# Altium integrated library Analog Devices Data Converters Digital-to-Analog Converters.IntLib: 2231 symbols (part 52 of 181)
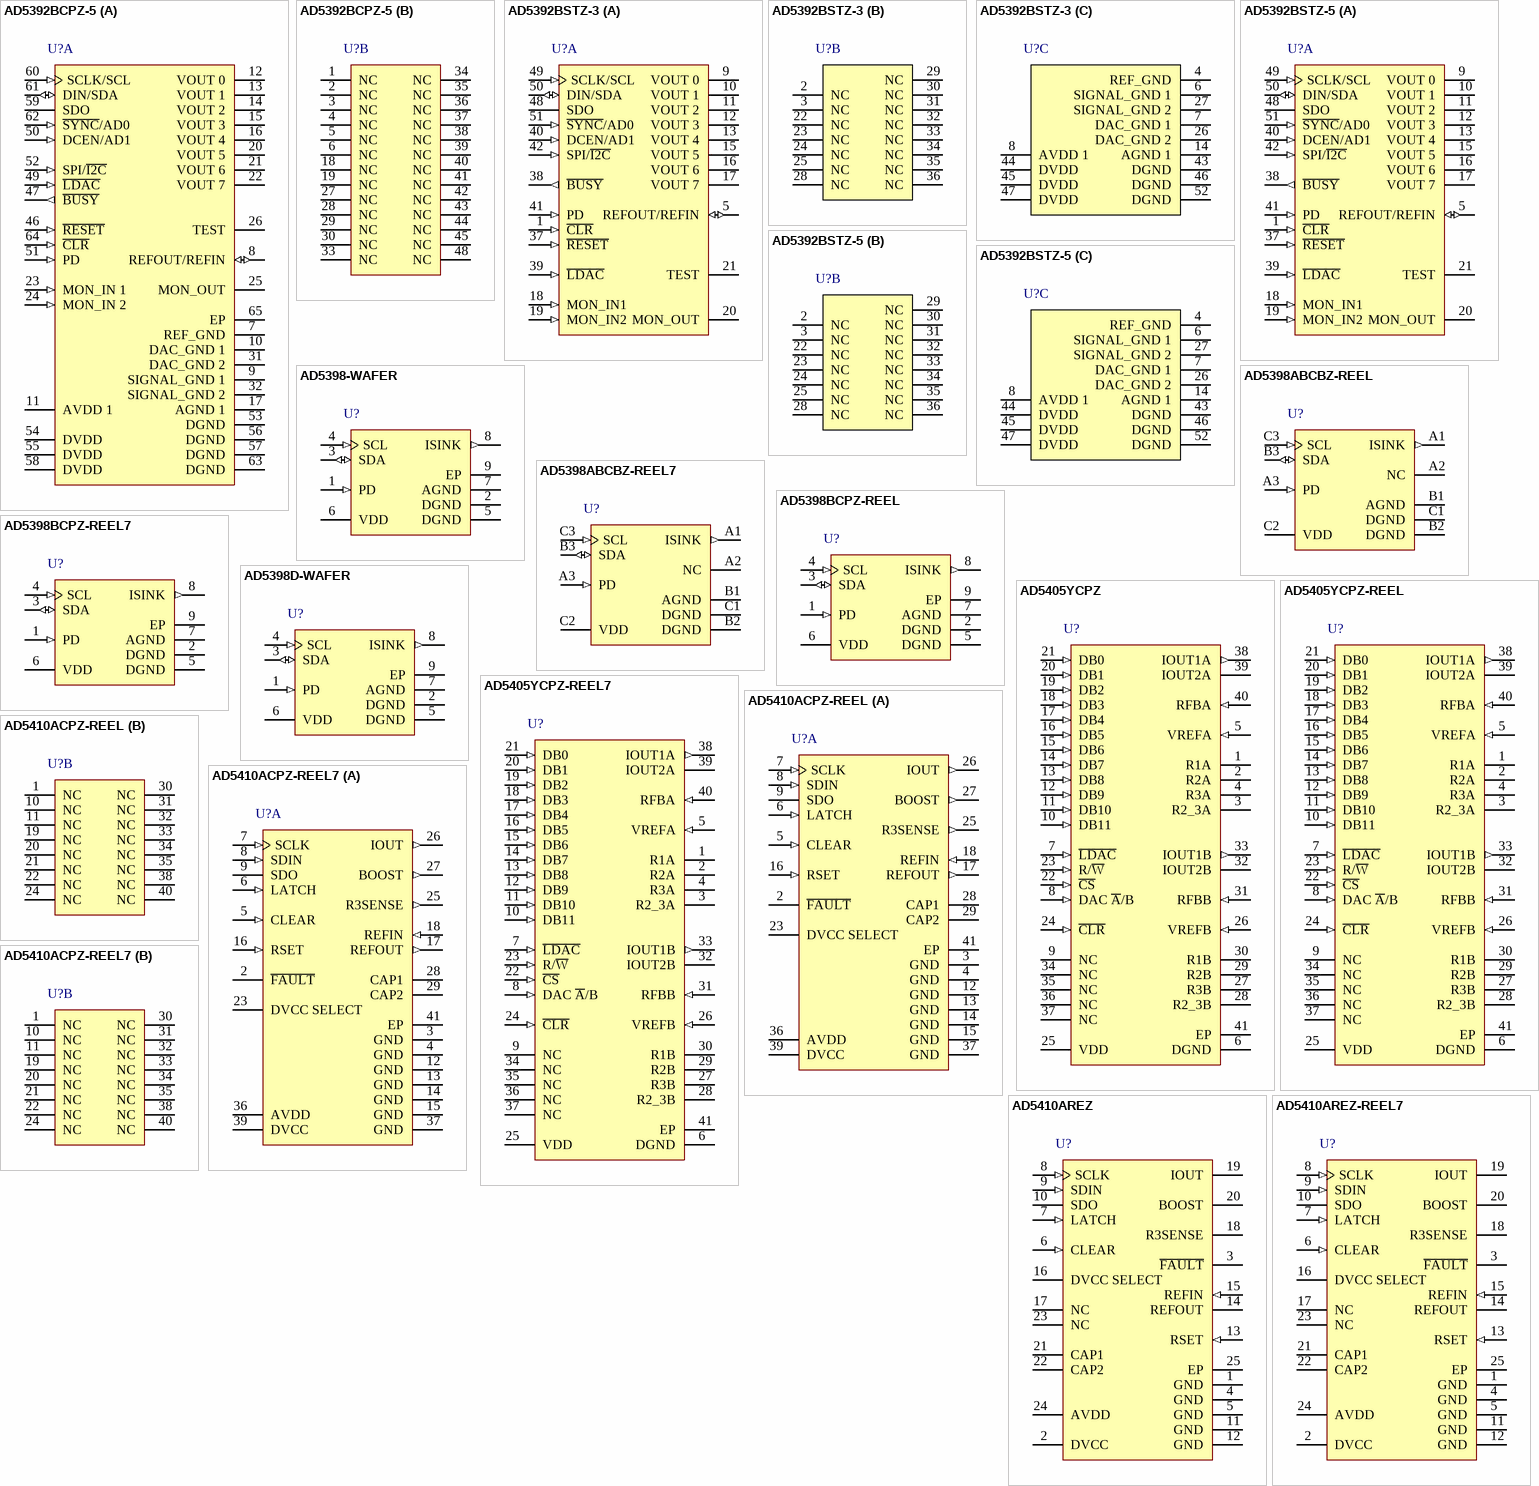
[diagram p165: symbols AD5392BCPZ-5 to AD5410AREZ-REEL7]

## AD5392BSTZ-3
designator U?
Octal 14-Bit Single-Supply Voltage Output Digital-to-Analog Converter with Serial Interface, 3 V, -40 to +85 degC, ST-52, Pb-Free, Tray; Generic Part Number: AD5392; Manufacturer: Analog Devices; PartNumber: AD5392BSTZ-3; # DAC Outputs: 8; Max V+: 5.5V; Resolution (Bits): 14; Settling Time: 8µs; Single Supply: Yes; DatasheetVersion: Rev. D; PackageVersion: 2003; PackageReference: ST-52; PackageDescription: 52-Lead Low Profile Quad Flat Package [LQFP]; Supplier 1: Digi-Key; Supplier Part Number 1: AD5392BSTZ-3-ND; Supplier 2: Mouser; Supplier Part Number 2: 584-AD5392BSTZ-3; Packing: Tray; RoHS: Y; Mounting Technology: Surface Mount; Code_JEDEC: MS-026-BCC; ComponentLink1Description: Manufacturer URL; ComponentLink1URL: http://www.analog.com/en/index.html; ComponentLink2Description: Datasheet; ComponentLink2URL: http://www.analog.com/static/imported-files/data_sheets/AD5390_5391_5392.pdf; ComponentLink3Description: Package Specification; ComponentLink3URL: http://www.analog.com/static/imported-files/packages/61012411624300842189414155189544791816408612ST_52_10x10.pdf; ComponentLink4Description: Product URL; ComponentLink4URL: http://www.analog.com/en/digital-to-analog-converters/da-converters/ad5392/products/product.html; ComponentLink5Description: Reference Design URL; ComponentLink5URL: http://www.analog.com/en/digital-to-analog-converters/da-converters/ad5392/products/product.html#prod_cross_sell
footprint ST-52_N (Thin QFP, 52-Leads, Body 10 x 10mm, Pitch 0.65mm, IPC Medium Density)
footprint ST-52_L (Thin QFP, 52-Leads, Body 10 x 10mm, Pitch 0.65mm, IPC High Density)
footprint ST-52_M (Thin QFP, 52-Leads, Body 10 x 10mm, Pitch 0.65mm, IPC Low Density)
part A pins: 1 ~{CLR} (in) "Asynchronous Clear Input. The C\L\R\ input is falling edge sensitive. While C\L\R\ is low, all L\D\A\C\ pulses are ignored. When C\L\R\ is activated, all channels are updated with the data contained in the C\L\R\ code (See Datasheet)", 5 REFOUT/REFIN (io) "The AD5392 contains a common REFOUT/REFIN pin. When the internal reference is selected, this pin is the reference  output. If the application necessitates the use of an external reference, it can be applied to this pin and (See Datasheet)", 9 VOUT 0 (hiz) "Buffered Analog Outputs for Channel 0. Each analog output is driven by a rail-to-rail output amplifier operating at a gain  of 2. Each output is capable of driving an output load of 5 kohm to ground. Typical output impedance (See Datasheet)", 10 VOUT 1 (hiz) "Buffered Analog Outputs for Channel 1. Each analog output is driven by a rail-to-rail output amplifier operating at a gain  of 2. Each output is capable of driving an output load of 5 kohm to ground. Typical output impedance (See Datasheet)", 11 VOUT 2 (hiz) "Buffered Analog Outputs for Channel 2. Each analog output is driven by a rail-to-rail output amplifier operating at a gain  of 2. Each output is capable of driving an output load of 5 kohm to ground. Typical output impedance (See Datasheet)", 12 VOUT 3 (hiz) "Buffered Analog Outputs for Channel 3. Each analog output is driven by a rail-to-rail output amplifier operating at a gain  of 2. Each output is capable of driving an output load of 5 kohm to ground. Typical output impedance (See Datasheet)", 13 VOUT 4 (hiz) "Buffered Analog Outputs for Channel 4. Each analog output is driven by a rail-to-rail output amplifier operating at a gain  of 2. Each output is capable of driving an output load of 5 kohm to ground. Typical output impedance (See Datasheet)", 15 VOUT 5 (hiz) "Buffered Analog Outputs for Channel 5. Each analog output is driven by a rail-to-rail output amplifier operating at a gain  of 2. Each output is capable of driving an output load of 5 kohm to ground. Typical output impedance (See Datasheet)", 16 VOUT 6 (hiz) "Buffered Analog Outputs for Channel 6. Each analog output is driven by a rail-to-rail output amplifier operating at a gain  of 2. Each output is capable of driving an output load of 5 kohm to ground. Typical output impedance (See Datasheet)", 17 VOUT 7 (hiz) "Buffered Analog Outputs for Channel 7. Each analog output is driven by a rail-to-rail output amplifier operating at a gain  of 2. Each output is capable of driving an output load of 5 kohm to ground. Typical output impedance (See Datasheet)", 18 MON_IN1 (in) "Monitor Input Pins. The AD5392 contains two monitor input pins to which the user can connect input signals (within the  maximum ratings of the device) for monitoring purposes. Any of the signals applied to the MON_IN pins (See Datasheet)", 19 MON_IN2 (in) "Monitor Input Pins. The AD5392 contains two monitor input pins to which the user can connect input signals (within the  maximum ratings of the device) for monitoring purposes. Any of the signals applied to the MON_IN pins (See Datasheet)", 20 MON_OUT (hiz) "Analog Output Pin. When the  monitor function is enabled on the AD5392, the MON_OUT acts as the output of an 8-to-1 channel multiplexer that can  be programmed to multiplex any channel output to the MON_OUT pin. The MON_OUT (See Datasheet)", 21 TEST "Test pin (AD5392 only). This pin is used for production testing. For normal operation, this pin should not be connected.", 37 ~{RESET} (in) "Asynchronous Digital Reset Input (falling edge sensitive). The function of this pin is equivalent to that of the power-on reset generator. When this pin is taken low, the state machine initiates a reset sequence to digitally (See Datasheet)", 38 ~{BUSY} (out) "Digital CMOS Output. B\U\S\Y\ goes low during internal calculations of the data (x2) loaded to the DAC data register. During this time, the user can continue writing new data to further the x1, c, and m registers (these are (See Datasheet)", 39 ~{LDAC} (in) "Load DAC Logic Input (active low). If L\D\A\C\ is taken low while B\U\S\Y\ is inactive (high), the contents of the input registers are transferred to the DAC registers and the DAC outputs are updated. If L\D\A\C\ is taken (See Datasheet)", 40 DCEN/AD1 (in) "Interface Control Pin. Operation is determined by the interface select bit SPI/I\2\C\.  Serial Interface Mode: Daisy-Chain Select Input (level-sensitive, active high). When high, this pin enables daisy-chain  operation to (See Datasheet)", 41 PD (in) "Power-Down (level-sensitive, active high). Used to place the device in low power mode, in which the device consumes  1 uA analog current and 20 uA digital current. In power-down mode, all internal analog circuitry is placed (See Datasheet)", 42 SPI/~{I2C} (in) "Interface Select Input Pin. When this input is low, I2C mode is selected. When this input is high, SPI mode is selected.", 48 SDO (hiz) "Serial Data Output. Three-state CMOS output. SDO can be used for daisy-chaining a number of devices together. Data is  clocked out on SDO on the rising edge of SCLK and is valid on the falling edge of SCLK.", 49 SCLK/SCL (in) "Interface Clock Input Pin. In SPI-compatible serial interface mode, this pin acts as a serial clock input. It operates at clock  speeds up to 50 MHz.  I2C mode: In I2C mode, this pin performs the SCL function, clocking data (See Datasheet)", 50 DIN/SDA (io) "Interface Data Input Pin. SPI/I\2\C\ = 1: This pin acts as the serial data input. Data must be valid on the falling edge of SCLK. SPI/I\2\C\ = 0, I2C mode: In I2C mode, this pin is the serial data pin (SDA) operating as an (See Datasheet)", 51 ~{SYNC}/AD0 (in) "Serial Interface Pin. This is the frame synchronization input signal for the serial interface. When taken low, the internal  counter is enabled to count the required number of clocks before the addressed register is updated. (See Datasheet)"
part B pins: 2 NC "No Connect. These pins have no internal connection.", 3 NC "No Connect. These pins have no internal connection.", 22 NC "No Connect. These pins have no internal connection.", 23 NC "No Connect. These pins have no internal connection.", 24 NC "No Connect. These pins have no internal connection.", 25 NC "No Connect. These pins have no internal connection.", 28 NC "No Connect. These pins have no internal connection.", 29 NC "No Connect. These pins have no internal connection.", 30 NC "No Connect. These pins have no internal connection.", 31 NC "No Connect. These pins have no internal connection.", 32 NC "No Connect. These pins have no internal connection.", 33 NC "No Connect. These pins have no internal connection.", 34 NC "No Connect. These pins have no internal connection.", 35 NC "No Connect. These pins have no internal connection.", 36 NC "No Connect. These pins have no internal connection."
part C pins: 4 REF_GND (power) "Ground Reference Point for the Internal Reference. Connect to AGND.", 6 SIGNAL_GND 1 (power) "Analog Ground Reference Points for each group of eight output channels. All SIGNAL_GND pins are tied together  internally and should be connected to the AGND plane as close as possible to the AD5392.", 7 DAC_GND 1 (power) "Each group of eight channels contains a DAC_GND pin. This is the ground reference point for the internal 14-bit DACs.  These pins should be connected to the AGND plane.", 8 AVDD 1 (power) "Analog Supply Pins. Each group of eight channels has a separate AVDD pin. These pins should be decoupled with 0.1 uF  ceramic capacitors and 10 µF tantalum capacitors. Operating range is 5 V +/- 10%.", 14 AGND 1 (power) "Analog Ground Reference Point. Each group of eight channels contains an AGND pin. All AGND pins should be  connected externally to the AGND plane.", 26 DAC_GND 2 (power) "Each group of eight channels contains a DAC_GND pin. This is the ground reference point for the internal 14-bit DACs.  These pins should be connected to the AGND plane.", 27 SIGNAL_GND 2 (power) "Analog Ground Reference Points for each group of eight output channels. All SIGNAL_GND pins are tied together  internally and should be connected to the AGND plane as close as possible to the AD5392.", 43 DGND (power) "Ground for All Digital Circuitry.", 44 DVDD (power) "Logic Power Supply. Guaranteed operating range is 2.7 V to 5.5 V. Recommended that these pins be decoupled with  0.1 uF ceramic capacitors and 10 uF tantalum capacitors to DGND.", 45 DVDD (power) "Logic Power Supply. Guaranteed operating range is 2.7 V to 5.5 V. Recommended that these pins be decoupled with  0.1 uF ceramic capacitors and 10 uF tantalum capacitors to DGND.", 46 DGND (power) "Ground for All Digital Circuitry.", 47 DVDD (power) "Logic Power Supply. Guaranteed operating range is 2.7 V to 5.5 V. Recommended that these pins be decoupled with  0.1 uF ceramic capacitors and 10 μF tantalum capacitors to DGND.", 52 DGND (power) "Ground for All Digital Circuitry."

## AD5392BSTZ-5
designator U?
Octal 14-Bit Single-Supply Voltage Output Digital-to-Analog Converter with Serial Interface, 5 V, -40 to +85 degC, ST-52, Pb-Free, Tray; Generic Part Number: AD5392; Manufacturer: Analog Devices; PartNumber: AD5392BSTZ-5; # DAC Outputs: 8; Max V+: 5.5V; Resolution (Bits): 14; Settling Time: 8µs; Single Supply: Yes; DatasheetVersion: Rev. D; PackageVersion: 2003; PackageReference: ST-52; PackageDescription: 52-Lead Low Profile Quad Flat Package [LQFP]; Supplier 1: Digi-Key; Supplier Part Number 1: AD5392BSTZ-5-ND; Supplier 2: Newark; Supplier Part Number 2: 59K4091; Supplier 3: Mouser; Supplier Part Number 3: 584-AD5392BSTZ-5; Packing: Tray; RoHS: Y; Mounting Technology: Surface Mount; Code_JEDEC: MS-026-BCC; ComponentLink1Description: Manufacturer URL; ComponentLink1URL: http://www.analog.com/en/index.html; ComponentLink2Description: Datasheet; ComponentLink2URL: http://www.analog.com/static/imported-files/data_sheets/AD5390_5391_5392.pdf; ComponentLink3Description: Package Specification; ComponentLink3URL: http://www.analog.com/static/imported-files/packages/61012411624300842189414155189544791816408612ST_52_10x10.pdf; ComponentLink4Description: Product URL; ComponentLink4URL: http://www.analog.com/en/digital-to-analog-converters/da-converters/ad5392/products/product.html; ComponentLink5Description: Reference Design URL; ComponentLink5URL: http://www.analog.com/en/digital-to-analog-converters/da-converters/ad5392/products/product.html#prod_cross_sell
footprint ST-52_N (Thin QFP, 52-Leads, Body 10 x 10mm, Pitch 0.65mm, IPC Medium Density)
footprint ST-52_L (Thin QFP, 52-Leads, Body 10 x 10mm, Pitch 0.65mm, IPC High Density)
footprint ST-52_M (Thin QFP, 52-Leads, Body 10 x 10mm, Pitch 0.65mm, IPC Low Density)
part A pins: 1 ~{CLR} (in) "Asynchronous Clear Input. The C\L\R\ input is falling edge sensitive. While C\L\R\ is low, all L\D\A\C\ pulses are ignored. When C\L\R\ is activated, all channels are updated with the data contained in the C\L\R\ code (See Datasheet)", 5 REFOUT/REFIN (io) "The AD5392 contains a common REFOUT/REFIN pin. When the internal reference is selected, this pin is the reference  output. If the application necessitates the use of an external reference, it can be applied to this pin and (See Datasheet)", 9 VOUT 0 (hiz) "Buffered Analog Outputs for Channel 0. Each analog output is driven by a rail-to-rail output amplifier operating at a gain  of 2. Each output is capable of driving an output load of 5 kohm to ground. Typical output impedance (See Datasheet)", 10 VOUT 1 (hiz) "Buffered Analog Outputs for Channel 1. Each analog output is driven by a rail-to-rail output amplifier operating at a gain  of 2. Each output is capable of driving an output load of 5 kohm to ground. Typical output impedance (See Datasheet)", 11 VOUT 2 (hiz) "Buffered Analog Outputs for Channel 2. Each analog output is driven by a rail-to-rail output amplifier operating at a gain  of 2. Each output is capable of driving an output load of 5 kohm to ground. Typical output impedance (See Datasheet)", 12 VOUT 3 (hiz) "Buffered Analog Outputs for Channel 3. Each analog output is driven by a rail-to-rail output amplifier operating at a gain  of 2. Each output is capable of driving an output load of 5 kohm to ground. Typical output impedance (See Datasheet)", 13 VOUT 4 (hiz) "Buffered Analog Outputs for Channel 4. Each analog output is driven by a rail-to-rail output amplifier operating at a gain  of 2. Each output is capable of driving an output load of 5 kohm to ground. Typical output impedance (See Datasheet)", 15 VOUT 5 (hiz) "Buffered Analog Outputs for Channel 5. Each analog output is driven by a rail-to-rail output amplifier operating at a gain  of 2. Each output is capable of driving an output load of 5 kohm to ground. Typical output impedance (See Datasheet)", 16 VOUT 6 (hiz) "Buffered Analog Outputs for Channel 6. Each analog output is driven by a rail-to-rail output amplifier operating at a gain  of 2. Each output is capable of driving an output load of 5 kohm to ground. Typical output impedance (See Datasheet)", 17 VOUT 7 (hiz) "Buffered Analog Outputs for Channel 7. Each analog output is driven by a rail-to-rail output amplifier operating at a gain  of 2. Each output is capable of driving an output load of 5 kohm to ground. Typical output impedance (See Datasheet)", 18 MON_IN1 (in) "Monitor Input Pins. The AD5392 contains two monitor input pins to which the user can connect input signals (within the  maximum ratings of the device) for monitoring purposes. Any of the signals applied to the MON_IN pins (See Datasheet)", 19 MON_IN2 (in) "Monitor Input Pins. The AD5392 contains two monitor input pins to which the user can connect input signals (within the  maximum ratings of the device) for monitoring purposes. Any of the signals applied to the MON_IN pins (See Datasheet)", 20 MON_OUT (hiz) "Analog Output Pin. When the  monitor function is enabled on the AD5392, the MON_OUT acts as the output of an 8-to-1 channel multiplexer that can  be programmed to multiplex any channel output to the MON_OUT pin. The MON_OUT (See Datasheet)", 21 TEST "Test pin (AD5392 only). This pin is used for production testing. For normal operation, this pin should not be connected.", 37 ~{RESET} (in) "Asynchronous Digital Reset Input (falling edge sensitive). The function of this pin is equivalent to that of the power-on reset generator. When this pin is taken low, the state machine initiates a reset sequence to digitally (See Datasheet)", 38 ~{BUSY} (out) "Digital CMOS Output. B\U\S\Y\ goes low during internal calculations of the data (x2) loaded to the DAC data register. During this time, the user can continue writing new data to further the x1, c, and m registers (these are (See Datasheet)", 39 ~{LDAC} (in) "Load DAC Logic Input (active low). If L\D\A\C\ is taken low while B\U\S\Y\ is inactive (high), the contents of the input registers are transferred to the DAC registers and the DAC outputs are updated. If L\D\A\C\ is taken (See Datasheet)", 40 DCEN/AD1 (in) "Interface Control Pin. Operation is determined by the interface select bit SPI/I\2\C\.  Serial Interface Mode: Daisy-Chain Select Input (level-sensitive, active high). When high, this pin enables daisy-chain  operation to (See Datasheet)", 41 PD (in) "Power-Down (level-sensitive, active high). Used to place the device in low power mode, in which the device consumes  1 uA analog current and 20 uA digital current. In power-down mode, all internal analog circuitry is placed (See Datasheet)", 42 SPI/~{I2C} (in) "Interface Select Input Pin. When this input is low, I2C mode is selected. When this input is high, SPI mode is selected.", 48 SDO (hiz) "Serial Data Output. Three-state CMOS output. SDO can be used for daisy-chaining a number of devices together. Data is  clocked out on SDO on the rising edge of SCLK and is valid on the falling edge of SCLK.", 49 SCLK/SCL (in) "Interface Clock Input Pin. In SPI-compatible serial interface mode, this pin acts as a serial clock input. It operates at clock  speeds up to 50 MHz.  I2C mode: In I2C mode, this pin performs the SCL function, clocking data (See Datasheet)", 50 DIN/SDA (io) "Interface Data Input Pin. SPI/I\2\C\ = 1: This pin acts as the serial data input. Data must be valid on the falling edge of SCLK. SPI/I\2\C\ = 0, I2C mode: In I2C mode, this pin is the serial data pin (SDA) operating as an (See Datasheet)", 51 ~{SYNC}/AD0 (in) "Serial Interface Pin. This is the frame synchronization input signal for the serial interface. When taken low, the internal  counter is enabled to count the required number of clocks before the addressed register is updated. (See Datasheet)"
part B pins: 2 NC "No Connect. These pins have no internal connection.", 3 NC "No Connect. These pins have no internal connection.", 22 NC "No Connect. These pins have no internal connection.", 23 NC "No Connect. These pins have no internal connection.", 24 NC "No Connect. These pins have no internal connection.", 25 NC "No Connect. These pins have no internal connection.", 28 NC "No Connect. These pins have no internal connection.", 29 NC "No Connect. These pins have no internal connection.", 30 NC "No Connect. These pins have no internal connection.", 31 NC "No Connect. These pins have no internal connection.", 32 NC "No Connect. These pins have no internal connection.", 33 NC "No Connect. These pins have no internal connection.", 34 NC "No Connect. These pins have no internal connection.", 35 NC "No Connect. These pins have no internal connection.", 36 NC "No Connect. These pins have no internal connection."
part C pins: 4 REF_GND (power) "Ground Reference Point for the Internal Reference. Connect to AGND.", 6 SIGNAL_GND 1 (power) "Analog Ground Reference Points for each group of eight output channels. All SIGNAL_GND pins are tied together  internally and should be connected to the AGND plane as close as possible to the AD5392.", 7 DAC_GND 1 (power) "Each group of eight channels contains a DAC_GND pin. This is the ground reference point for the internal 14-bit DACs.  These pins should be connected to the AGND plane.", 8 AVDD 1 (power) "Analog Supply Pins. Each group of eight channels has a separate AVDD pin. These pins should be decoupled with 0.1 uF  ceramic capacitors and 10 µF tantalum capacitors. Operating range is 5 V +/- 10%.", 14 AGND 1 (power) "Analog Ground Reference Point. Each group of eight channels contains an AGND pin. All AGND pins should be  connected externally to the AGND plane.", 26 DAC_GND 2 (power) "Each group of eight channels contains a DAC_GND pin. This is the ground reference point for the internal 14-bit DACs.  These pins should be connected to the AGND plane.", 27 SIGNAL_GND 2 (power) "Analog Ground Reference Points for each group of eight output channels. All SIGNAL_GND pins are tied together  internally and should be connected to the AGND plane as close as possible to the AD5392.", 43 DGND (power) "Ground for All Digital Circuitry.", 44 DVDD (power) "Logic Power Supply. Guaranteed operating range is 2.7 V to 5.5 V. Recommended that these pins be decoupled with  0.1 uF ceramic capacitors and 10 uF tantalum capacitors to DGND.", 45 DVDD (power) "Logic Power Supply. Guaranteed operating range is 2.7 V to 5.5 V. Recommended that these pins be decoupled with  0.1 uF ceramic capacitors and 10 uF tantalum capacitors to DGND.", 46 DGND (power) "Ground for All Digital Circuitry.", 47 DVDD (power) "Logic Power Supply. Guaranteed operating range is 2.7 V to 5.5 V. Recommended that these pins be decoupled with  0.1 uF ceramic capacitors and 10 μF tantalum capacitors to DGND.", 52 DGND (power) "Ground for All Digital Circuitry."

## AD5398-WAFER
designator U?
Single 10-Bit Current Sinking Digital-to-Analog Converter with I2C Interface, 120 mA, CP-8-2, Pb-Free, Reel; Generic Part Number: AD5398; Manufacturer: Analog Devices; PartNumber: AD5398-WAFER; # DAC Outputs: 1; Max V+: 5.5V; Op Pwr Diss: 20mW; Resolution (Bits): 10; Settling Time: 250µs; Single Supply: Yes; DatasheetVersion: Rev.B; PackageVersion: 061507-B; PackageReference: CP-8-2; PackageDescription: 8-Lead Lead Frame Chip Scale Package [LFCSP_VD] 3 x 3 mm Body, Very Thin, Dual Lead; Supplier 1: Mouser; Supplier Part Number 1: N/A; RoHS: Y; Mounting Technology: Surface Mount; ComponentLink1Description: Manufacturer URL; ComponentLink1URL: http://www.analog.com/en/index.html; ComponentLink2Description: Datasheet; ComponentLink2URL: http://www.analog.com/static/imported-files/data_sheets/AD5398.pdf; ComponentLink3Description: Package Specification; ComponentLink3URL: http://www.analog.com/static/imported-files/packages/56953322593982CP_8_2.pdf; ComponentLink4Description: Product URL; ComponentLink4URL: http://www.analog.com/en/digital-to-analog-converters/da-converters/ad5398/products/product.html
footprint CP-8-2_N (SON, 8-Leads, Body 3x3mm, Pitch 0.5mm, Thermal Pad 1.75x1.45mm, IPC Medium Density)
footprint CP-8-2_L (SON, 8-Leads, Body 3x3mm, Pitch 0.5mm, Thermal Pad 1.75x1.45mm, IPC High Density)
footprint CP-8-2_M (SON, 8-Leads, Body 3x3mm, Pitch 0.5mm, Thermal Pad 1.75x1.45mm, IPC Low Density)
pins: 1 PD (in) "Power Down. Asynchronous power-down signal.", 2 DGND (power) "Digital Ground Pin.", 3 SDA (io) "I2C Interface Signal.", 4 SCL (in) "I2C Interface Signal.", 5 DGND (power) "Digital Ground Pin.", 6 VDD (power) "Digital Supply Voltage.", 7 AGND (power) "Analog Ground Pin.", 8 ISINK (out) "Output Current Sink.", 9 EP (power) "The exposed paddle on the AD5398 should be soldered to ground to ensure the best possible thermal performance"

## AD5398ABCBZ-REEL
designator U?
Single 10-Bit Current Sinking Digital-to-Analog Converter with I2C Interface, 120 mA, -30 to +85 degC, CB-9-1, Pb-Free, Reel; Generic Part Number: AD5398A; Manufacturer: Analog Devices; PartNumber: AD5398ABCBZ-REEL; # DAC Outputs: 1; Max V+: 5.5V; Op Pwr Diss: 5mW; Resolution (Bits): 10; Settling Time: 250µs; Single Supply: Yes; DatasheetVersion: Rev.0; PackageVersion: 091306-B; PackageReference: CB-9-1; PackageDescription: 9-Ball Wafer Level Chip Scale Package [WLCSP]; Supplier 1: Digi-Key; Supplier Part Number 1: AD5398ABCBZ-REEL-ND; Supplier 2: Mouser; Supplier Part Number 2: 584-AD5398ABCBZ-R; Packing: Reel; RoHS: Y; Mounting Technology: Surface Mount; ComponentLink1Description: Manufacturer URL; ComponentLink1URL: http://www.analog.com/en/index.html; ComponentLink2Description: Datasheet; ComponentLink2URL: http://www.analog.com/static/imported-files/data_sheets/AD5398A.pdf; ComponentLink3Description: Package Specification; ComponentLink3URL: http://www.analog.com/static/imported-files/packages/PKG_PDF/WLCSP(CB)/CB_9_1.pdf; ComponentLink4Description: Product URL; ComponentLink4URL: http://www.analog.com/en/digital-to-analog-converters/da-converters/ad5398a/products/product.html
footprint CB-9-1 (BGA, 9-Leads, Body 1.69x1.52mm, Pitch 0.5mm)
pins: A1 ISINK (out) "Output Current Sink.", A2 NC "No Connection.", A3 PD (in) "Power-Down. Asynchronous power-down signal.", B1 AGND (power) "Analog Ground Pin.", B2 DGND (power) "Digital Ground Pin.", B3 SDA (io) "I2C Interface Signal.", C1 DGND (power) "Digital Ground Pin.", C2 VDD (power) "Digital Supply Voltage.", C3 SCL (in) "I2C Interface Signal."

## AD5398ABCBZ-REEL7
designator U?
Single 10-Bit Current Sinking Digital-to-Analog Converter with I2C Interface, 120 mA, -30 to +85 degC, CB-9-1, Pb-Free, Reel; Generic Part Number: AD5398A; Manufacturer: Analog Devices; PartNumber: AD5398ABCBZ-REEL7; # DAC Outputs: 1; Max V+: 5.5V; Op Pwr Diss: 5mW; Resolution (Bits): 10; Settling Time: 250µs; Single Supply: Yes; DatasheetVersion: Rev.0; PackageVersion: 091306-B; PackageReference: CB-9-1; PackageDescription: 9-Ball Wafer Level Chip Scale Package [WLCSP]; Supplier 1: Digi-Key; Supplier Part Number 1: AD5398ABCBZ-REEL7TR-ND; Supplier 2: Digi-Key; Supplier Part Number 2: AD5398ABCBZ-REEL7CT-ND; Supplier 3: Digi-Key; Supplier Part Number 3: AD5398ABCBZ-REEL7DKR-ND; Supplier 4: Mouser; Supplier Part Number 4: 584-AD5398ABCBZ-R7; Packing: Reel; RoHS: Y; Mounting Technology: Surface Mount; ComponentLink1Description: Manufacturer URL; ComponentLink1URL: http://www.analog.com/en/index.html; ComponentLink2Description: Datasheet; ComponentLink2URL: http://www.analog.com/static/imported-files/data_sheets/AD5398A.pdf; ComponentLink3Description: Package Specification; ComponentLink3URL: http://www.analog.com/static/imported-files/packages/PKG_PDF/WLCSP(CB)/CB_9_1.pdf; ComponentLink4Description: Product URL; ComponentLink4URL: http://www.analog.com/en/digital-to-analog-converters/da-converters/ad5398a/products/product.html
footprint CB-9-1 (BGA, 9-Leads, Body 1.69x1.52mm, Pitch 0.5mm)
pins: A1 ISINK (out) "Output Current Sink.", A2 NC "No Connection.", A3 PD (in) "Power-Down. Asynchronous power-down signal.", B1 AGND (power) "Analog Ground Pin.", B2 DGND (power) "Digital Ground Pin.", B3 SDA (io) "I2C Interface Signal.", C1 DGND (power) "Digital Ground Pin.", C2 VDD (power) "Digital Supply Voltage.", C3 SCL (in) "I2C Interface Signal."

## AD5398BCPZ-REEL
designator U?
Single 10-Bit Current Sinking Digital-to-Analog Converter with I2C Interface, 120 mA, -40 to +85 degC, CP-8-2, Pb-Free, Reel; Generic Part Number: AD5398; Manufacturer: Analog Devices; PartNumber: AD5398BCPZ-REEL; # DAC Outputs: 1; Max V+: 5.5V; Op Pwr Diss: 20mW; Resolution (Bits): 10; Settling Time: 250µs; Single Supply: Yes; DatasheetVersion: Rev.B; PackageVersion: 061507-B; PackageReference: CP-8-2; PackageDescription: 8-Lead Lead Frame Chip Scale Package [LFCSP_VD] 3 x 3 mm Body, Very Thin, Dual Lead; Supplier 1: Digi-Key; Supplier Part Number 1: AD5398BCPZ-REEL-ND; Supplier 2: Mouser; Supplier Part Number 2: 584-AD5398BCPZ-R; Packing: Reel; RoHS: Y; Mounting Technology: Surface Mount; ComponentLink1Description: Manufacturer URL; ComponentLink1URL: http://www.analog.com/en/index.html; ComponentLink2Description: Datasheet; ComponentLink2URL: http://www.analog.com/static/imported-files/data_sheets/AD5398.pdf; ComponentLink3Description: Package Specification; ComponentLink3URL: http://www.analog.com/static/imported-files/packages/56953322593982CP_8_2.pdf; ComponentLink4Description: Product URL; ComponentLink4URL: http://www.analog.com/en/digital-to-analog-converters/da-converters/ad5398/products/product.html
footprint CP-8-2_N (SON, 8-Leads, Body 3x3mm, Pitch 0.5mm, Thermal Pad 1.75x1.45mm, IPC Medium Density)
footprint CP-8-2_L (SON, 8-Leads, Body 3x3mm, Pitch 0.5mm, Thermal Pad 1.75x1.45mm, IPC High Density)
footprint CP-8-2_M (SON, 8-Leads, Body 3x3mm, Pitch 0.5mm, Thermal Pad 1.75x1.45mm, IPC Low Density)
pins: 1 PD (in) "Power Down. Asynchronous power-down signal.", 2 DGND (power) "Digital Ground Pin.", 3 SDA (io) "I2C Interface Signal.", 4 SCL (in) "I2C Interface Signal.", 5 DGND (power) "Digital Ground Pin.", 6 VDD (power) "Digital Supply Voltage.", 7 AGND (power) "Analog Ground Pin.", 8 ISINK (out) "Output Current Sink.", 9 EP (power) "The exposed paddle on the AD5398 should be soldered to ground to ensure the best possible thermal performance"

## AD5398BCPZ-REEL7
designator U?
Single 10-Bit Current Sinking Digital-to-Analog Converter with I2C Interface, 120 mA, -40 to +85 degC, CP-8-2, Pb-Free, Reel; Generic Part Number: AD5398; Manufacturer: Analog Devices; PartNumber: AD5398BCPZ-REEL7; # DAC Outputs: 1; Max V+: 5.5V; Op Pwr Diss: 20mW; Resolution (Bits): 10; Settling Time: 250µs; Single Supply: Yes; DatasheetVersion: Rev.B; PackageVersion: 061507-B; PackageReference: CP-8-2; PackageDescription: 8-Lead Lead Frame Chip Scale Package [LFCSP_VD] 3 x 3 mm Body, Very Thin, Dual Lead; Supplier 1: Digi-Key; Supplier Part Number 1: AD5398BCPZ-REEL7TR-ND; Supplier 2: Digi-Key; Supplier Part Number 2: AD5398BCPZ-REEL7CT-ND; Supplier 3: Digi-Key; Supplier Part Number 3: AD5398BCPZ-REEL7DKR-ND; Supplier 4: Mouser; Supplier Part Number 4: 584-AD5398BCPZ-R7; Packing: Reel; RoHS: Y; Mounting Technology: Surface Mount; ComponentLink1Description: Manufacturer URL; ComponentLink1URL: http://www.analog.com/en/index.html; ComponentLink2Description: Datasheet; ComponentLink2URL: http://www.analog.com/static/imported-files/data_sheets/AD5398.pdf; ComponentLink3Description: Package Specification; ComponentLink3URL: http://www.analog.com/static/imported-files/packages/56953322593982CP_8_2.pdf; ComponentLink4Description: Product URL; ComponentLink4URL: http://www.analog.com/en/digital-to-analog-converters/da-converters/ad5398/products/product.html
footprint CP-8-2_N (SON, 8-Leads, Body 3x3mm, Pitch 0.5mm, Thermal Pad 1.75x1.45mm, IPC Medium Density)
footprint CP-8-2_L (SON, 8-Leads, Body 3x3mm, Pitch 0.5mm, Thermal Pad 1.75x1.45mm, IPC High Density)
footprint CP-8-2_M (SON, 8-Leads, Body 3x3mm, Pitch 0.5mm, Thermal Pad 1.75x1.45mm, IPC Low Density)
pins: 1 PD (in) "Power Down. Asynchronous power-down signal.", 2 DGND (power) "Digital Ground Pin.", 3 SDA (io) "I2C Interface Signal.", 4 SCL (in) "I2C Interface Signal.", 5 DGND (power) "Digital Ground Pin.", 6 VDD (power) "Digital Supply Voltage.", 7 AGND (power) "Analog Ground Pin.", 8 ISINK (out) "Output Current Sink.", 9 EP (power) "The exposed paddle on the AD5398 should be soldered to ground to ensure the best possible thermal performance"

## AD5398D-WAFER
designator U?
Single 10-Bit Current Sinking Digital-to-Analog Converter with I2C Interface, 120 mA, CP-8-2, Pb-Free, Reel; Generic Part Number: AD5398; Manufacturer: Analog Devices; PartNumber: AD5398D-WAFER; # DAC Outputs: 1; Max V+: 5.5V; Op Pwr Diss: 20mW; Resolution (Bits): 10; Settling Time: 250µs; Single Supply: Yes; DatasheetVersion: Rev.B; PackageVersion: 061507-B; PackageReference: CP-8-2; PackageDescription: 8-Lead Lead Frame Chip Scale Package [LFCSP_VD] 3 x 3 mm Body, Very Thin, Dual Lead; Supplier 1: Mouser; Supplier Part Number 1: N/A; RoHS: Y; Mounting Technology: Surface Mount; ComponentLink1Description: Manufacturer URL; ComponentLink1URL: http://www.analog.com/en/index.html; ComponentLink2Description: Datasheet; ComponentLink2URL: http://www.analog.com/static/imported-files/data_sheets/AD5398.pdf; ComponentLink3Description: Package Specification; ComponentLink3URL: http://www.analog.com/static/imported-files/packages/56953322593982CP_8_2.pdf; ComponentLink4Description: Product URL; ComponentLink4URL: http://www.analog.com/en/digital-to-analog-converters/da-converters/ad5398/products/product.html
footprint CP-8-2_N (SON, 8-Leads, Body 3x3mm, Pitch 0.5mm, Thermal Pad 1.75x1.45mm, IPC Medium Density)
footprint CP-8-2_L (SON, 8-Leads, Body 3x3mm, Pitch 0.5mm, Thermal Pad 1.75x1.45mm, IPC High Density)
footprint CP-8-2_M (SON, 8-Leads, Body 3x3mm, Pitch 0.5mm, Thermal Pad 1.75x1.45mm, IPC Low Density)
pins: 1 PD (in) "Power Down. Asynchronous power-down signal.", 2 DGND (power) "Digital Ground Pin.", 3 SDA (io) "I2C Interface Signal.", 4 SCL (in) "I2C Interface Signal.", 5 DGND (power) "Digital Ground Pin.", 6 VDD (power) "Digital Supply Voltage.", 7 AGND (power) "Analog Ground Pin.", 8 ISINK (out) "Output Current Sink.", 9 EP (power) "The exposed paddle on the AD5398 should be soldered to ground to ensure the best possible thermal performance"

## AD5405YCPZ
designator U?
Dual 12-Bit High Bandwidth Multiplying Digital-to-Analog Converter, -40 to +125 degC, CP-40-1, Pb-Free, Tray; Generic Part Number: AD5405; Manufacturer: Analog Devices; PartNumber: AD5405YCPZ; # DAC Outputs: 2; Max V+: 5.5V; Op Pwr Diss: 50µW; Resolution (Bits): 12; Settling Time: 80ns; Single Supply: Yes; DatasheetVersion: Rev.B; PackageVersion: Oct-2006; PackageReference: CP-40-1; PackageDescription: 40-Pin Lead Frame Chip Scale Package [LFCSP_VQ] Very Thin Quad; Supplier 1: Digi-Key; Supplier Part Number 1: AD5405YCPZ-ND; Supplier 2: Farnell; Supplier Part Number 2: 1438371; Supplier 3: Newark; Supplier Part Number 3: 15P0675; Supplier 4: Newark; Supplier Part Number 4: 59K4099; Supplier 5: Mouser; Supplier Part Number 5: 584-AD5405YCPZ; Packing: Tray; RoHS: Y; Mounting Technology: Surface Mount; Code_JEDEC: MO-220-VJJD-2; ComponentLink1Description: Manufacturer URL; ComponentLink1URL: http://www.analog.com/en/index.html; ComponentLink2Description: Datasheet; ComponentLink2URL: http://www.analog.com/static/imported-files/data_sheets/AD5405.pdf; ComponentLink3Description: Package Specification; ComponentLink3URL: http://www.analog.com/static/imported-files/packages/PKG_PDF/LFCSP(CP)/CP_40_1.pdf; ComponentLink4Description: Product URL; ComponentLink4URL: http://www.analog.com/en/digital-to-analog-converters/da-converters/ad5405/products/product.html
footprint CP-40-1_N (QFN, 40-Leads, Body 6x6mm, Pitch 0.5mm, Thermal Pad 4.3x4.3mm, IPC Medium Density)
footprint CP-40-1_L (QFN, 40-Leads, Body 6x6mm, Pitch 0.5mm, Thermal Pad 4.3x4.3mm, IPC High Density)
footprint CP-40-1_M (QFN, 40-Leads, Body 6x6mm, Pitch 0.5mm, Thermal Pad 4.3x4.3mm, IPC Low Density)
pins: 1 R1A "DAC A 4-Quadrant Resistors. Allow a number of configuration modes, including bipolar operation with minimum of external components", 2 R2A "DAC A 4-Quadrant Resistors. Allow a number of configuration modes, including bipolar operation with minimum of external components", 3 R2_3A "DAC A 4-Quadrant Resistors. Allow a number of configuration modes, including bipolar operation with minimum of external components", 4 R3A "DAC A 4-Quadrant Resistors. Allow a number of configuration modes, including bipolar operation with minimum of external components", 5 VREFA (in) "DAC Reference Voltage Input Terminals.", 6 DGND (power) "Digital Ground Pin.", 7 ~{LDAC} (in) "Load DAC Input. Allows asynchronous or synchronous updates to the DAC output. The DAC is asynchronously updated when this signal goes low. Alternatively, if this line is held permanently low, an automatic or synchronous (See Datasheet)", 8 DAC ~{A}/B (in) "Selects DAC A or B. Low selects DAC A, and high selects DAC B.", 9 NC "Not internally connected.", 10 DB11 (in) "Parallel Data Bit 11", 11 DB10 (in) "Parallel Data Bit 10", 12 DB9 (in) "Parallel Data Bit 9", 13 DB8 (in) "Parallel Data Bit 8", 14 DB7 (in) "Parallel Data Bit 7", 15 DB6 (in) "Parallel Data Bit 6", 16 DB5 (in) "Parallel Data Bit 5", 17 DB4 (in) "Parallel Data Bit 4", 18 DB3 (in) "Parallel Data Bit 3", 19 DB2 (in) "Parallel Data Bit 2", 20 DB1 (in) "Parallel Data Bit 3", 21 DB0 (in) "Parallel Data Bit 0", 22 ~{CS} (in) "Chip Select Input. Active low. Used in conjunction with R/W\ to load parallel data to the input latch or to read data from the DAC register. Edge sensitive; when pulled high, the DAC data is latched.", 23 R/~{W} (in) "Read/Write. When low, used in conjunction with C\S\ to load parallel data. When high, used in conjunction with C\S\ to read back contents of DAC register.", 24 ~{CLR} (in) "Active Low Control Input. Clears DAC output and input and DAC registers.", 25 VDD (power) "Positive Power Supply Input. These parts can be operated from a supply of 2.5 V to 5.5 V.", 26 VREFB (in) "DAC Reference Voltage Input Terminals.", 27 R3B "DAC B 4-Quadrant Resistors. Allow a number of configuration modes, including bipolar operation with a minimum of external components.", 28 R2_3B "DAC B 4-Quadrant Resistors. Allow a number of configuration modes, including bipolar operation with a minimum of external components.", 29 R2B "DAC B 4-Quadrant Resistors. Allow a number of configuration modes, including bipolar operation with a minimum of external components.", 30 R1B "DAC B 4-Quadrant Resistors. Allow a number of configuration modes, including bipolar operation with a minimum of external components.", 31 RFBB (in) "External Amplifier Output.", 32 IOUT2B "DAC A Analog Ground. This pin typically should be tied to the analog ground of the system, but can be biased to achieve single-supply operation.", 33 IOUT1B (out) "DAC B Current Output.", 34 NC "Not internally connected.", 35 NC "Not internally connected.", 36 NC "Not internally connected.", 37 NC "Not internally connected.", 38 IOUT1A (out) "DAC A Current Output.", 39 IOUT2A "DAC A Analog Ground. This pin typically should be tied to the analog ground of the system, but can be biased to achieve single-supply operation.", 40 RFBA (in) "External Amplifier Output.", 41 EP (power) "Exposed pad must be connected to ground."

## AD5405YCPZ-REEL
designator U?
Dual 12-Bit High Bandwidth Multiplying Digital-to-Analog Converter, -40 to +125 degC, CP-40-1, Pb-Free, Reel; Generic Part Number: AD5405; Manufacturer: Analog Devices; PartNumber: AD5405YCPZ-REEL; # DAC Outputs: 2; Max V+: 5.5V; Op Pwr Diss: 50µW; Resolution (Bits): 12; Settling Time: 80ns; Single Supply: Yes; DatasheetVersion: Rev.B; PackageVersion: Oct-2006; PackageReference: CP-40-1; PackageDescription: 40-Pin Lead Frame Chip Scale Package [LFCSP_VQ] Very Thin Quad; Supplier 1: Digi-Key; Supplier Part Number 1: AD5405YCPZ-REEL-ND; Supplier 2: Newark; Supplier Part Number 2: 59K4100; Supplier 3: Mouser; Supplier Part Number 3: 584-AD5405YCPZ-R; Packing: Reel; RoHS: Y; Mounting Technology: Surface Mount; Code_JEDEC: MO-220-VJJD-2; ComponentLink1Description: Manufacturer URL; ComponentLink1URL: http://www.analog.com/en/index.html; ComponentLink2Description: Datasheet; ComponentLink2URL: http://www.analog.com/static/imported-files/data_sheets/AD5405.pdf; ComponentLink3Description: Package Specification; ComponentLink3URL: http://www.analog.com/static/imported-files/packages/PKG_PDF/LFCSP(CP)/CP_40_1.pdf; ComponentLink4Description: Product URL; ComponentLink4URL: http://www.analog.com/en/digital-to-analog-converters/da-converters/ad5405/products/product.html
footprint CP-40-1_N (QFN, 40-Leads, Body 6x6mm, Pitch 0.5mm, Thermal Pad 4.3x4.3mm, IPC Medium Density)
footprint CP-40-1_L (QFN, 40-Leads, Body 6x6mm, Pitch 0.5mm, Thermal Pad 4.3x4.3mm, IPC High Density)
footprint CP-40-1_M (QFN, 40-Leads, Body 6x6mm, Pitch 0.5mm, Thermal Pad 4.3x4.3mm, IPC Low Density)
pins: 1 R1A "DAC A 4-Quadrant Resistors. Allow a number of configuration modes, including bipolar operation with minimum of external components", 2 R2A "DAC A 4-Quadrant Resistors. Allow a number of configuration modes, including bipolar operation with minimum of external components", 3 R2_3A "DAC A 4-Quadrant Resistors. Allow a number of configuration modes, including bipolar operation with minimum of external components", 4 R3A "DAC A 4-Quadrant Resistors. Allow a number of configuration modes, including bipolar operation with minimum of external components", 5 VREFA (in) "DAC Reference Voltage Input Terminals.", 6 DGND (power) "Digital Ground Pin.", 7 ~{LDAC} (in) "Load DAC Input. Allows asynchronous or synchronous updates to the DAC output. The DAC is asynchronously updated when this signal goes low. Alternatively, if this line is held permanently low, an automatic or synchronous (See Datasheet)", 8 DAC ~{A}/B (in) "Selects DAC A or B. Low selects DAC A, and high selects DAC B.", 9 NC "Not internally connected.", 10 DB11 (in) "Parallel Data Bit 11", 11 DB10 (in) "Parallel Data Bit 10", 12 DB9 (in) "Parallel Data Bit 9", 13 DB8 (in) "Parallel Data Bit 8", 14 DB7 (in) "Parallel Data Bit 7", 15 DB6 (in) "Parallel Data Bit 6", 16 DB5 (in) "Parallel Data Bit 5", 17 DB4 (in) "Parallel Data Bit 4", 18 DB3 (in) "Parallel Data Bit 3", 19 DB2 (in) "Parallel Data Bit 2", 20 DB1 (in) "Parallel Data Bit 3", 21 DB0 (in) "Parallel Data Bit 0", 22 ~{CS} (in) "Chip Select Input. Active low. Used in conjunction with R/W\ to load parallel data to the input latch or to read data from the DAC register. Edge sensitive; when pulled high, the DAC data is latched.", 23 R/~{W} (in) "Read/Write. When low, used in conjunction with C\S\ to load parallel data. When high, used in conjunction with C\S\ to read back contents of DAC register.", 24 ~{CLR} (in) "Active Low Control Input. Clears DAC output and input and DAC registers.", 25 VDD (power) "Positive Power Supply Input. These parts can be operated from a supply of 2.5 V to 5.5 V.", 26 VREFB (in) "DAC Reference Voltage Input Terminals.", 27 R3B "DAC B 4-Quadrant Resistors. Allow a number of configuration modes, including bipolar operation with a minimum of external components.", 28 R2_3B "DAC B 4-Quadrant Resistors. Allow a number of configuration modes, including bipolar operation with a minimum of external components.", 29 R2B "DAC B 4-Quadrant Resistors. Allow a number of configuration modes, including bipolar operation with a minimum of external components.", 30 R1B "DAC B 4-Quadrant Resistors. Allow a number of configuration modes, including bipolar operation with a minimum of external components.", 31 RFBB (in) "External Amplifier Output.", 32 IOUT2B "DAC A Analog Ground. This pin typically should be tied to the analog ground of the system, but can be biased to achieve single-supply operation.", 33 IOUT1B (out) "DAC B Current Output.", 34 NC "Not internally connected.", 35 NC "Not internally connected.", 36 NC "Not internally connected.", 37 NC "Not internally connected.", 38 IOUT1A (out) "DAC A Current Output.", 39 IOUT2A "DAC A Analog Ground. This pin typically should be tied to the analog ground of the system, but can be biased to achieve single-supply operation.", 40 RFBA (in) "External Amplifier Output.", 41 EP (power) "Exposed pad must be connected to ground."

## AD5405YCPZ-REEL7
designator U?
Dual 12-Bit High Bandwidth Multiplying Digital-to-Analog Converter, -40 to +125 degC, CP-40-1, Pb-Free, Reel; Generic Part Number: AD5405; Manufacturer: Analog Devices; PartNumber: AD5405YCPZ-REEL7; # DAC Outputs: 2; Max V+: 5.5V; Op Pwr Diss: 50µW; Resolution (Bits): 12; Settling Time: 80ns; Single Supply: Yes; DatasheetVersion: Rev.B; PackageVersion: Oct-2006; PackageReference: CP-40-1; PackageDescription: 40-Pin Lead Frame Chip Scale Package [LFCSP_VQ] Very Thin Quad; Supplier 1: Digi-Key; Supplier Part Number 1: AD5405YCPZ-REEL7-ND; Supplier 2: Newark; Supplier Part Number 2: 59K4101; Supplier 3: Mouser; Supplier Part Number 3: 584-AD5405YCPZ-R7; Packing: Reel; RoHS: Y; Mounting Technology: Surface Mount; Code_JEDEC: MO-220-VJJD-2; ComponentLink1Description: Manufacturer URL; ComponentLink1URL: http://www.analog.com/en/index.html; ComponentLink2Description: Datasheet; ComponentLink2URL: http://www.analog.com/static/imported-files/data_sheets/AD5405.pdf; ComponentLink3Description: Package Specification; ComponentLink3URL: http://www.analog.com/static/imported-files/packages/PKG_PDF/LFCSP(CP)/CP_40_1.pdf; ComponentLink4Description: Product URL; ComponentLink4URL: http://www.analog.com/en/digital-to-analog-converters/da-converters/ad5405/products/product.html
footprint CP-40-1_N (QFN, 40-Leads, Body 6x6mm, Pitch 0.5mm, Thermal Pad 4.3x4.3mm, IPC Medium Density)
footprint CP-40-1_L (QFN, 40-Leads, Body 6x6mm, Pitch 0.5mm, Thermal Pad 4.3x4.3mm, IPC High Density)
footprint CP-40-1_M (QFN, 40-Leads, Body 6x6mm, Pitch 0.5mm, Thermal Pad 4.3x4.3mm, IPC Low Density)
pins: 1 R1A "DAC A 4-Quadrant Resistors. Allow a number of configuration modes, including bipolar operation with minimum of external components", 2 R2A "DAC A 4-Quadrant Resistors. Allow a number of configuration modes, including bipolar operation with minimum of external components", 3 R2_3A "DAC A 4-Quadrant Resistors. Allow a number of configuration modes, including bipolar operation with minimum of external components", 4 R3A "DAC A 4-Quadrant Resistors. Allow a number of configuration modes, including bipolar operation with minimum of external components", 5 VREFA (in) "DAC Reference Voltage Input Terminals.", 6 DGND (power) "Digital Ground Pin.", 7 ~{LDAC} (in) "Load DAC Input. Allows asynchronous or synchronous updates to the DAC output. The DAC is asynchronously updated when this signal goes low. Alternatively, if this line is held permanently low, an automatic or synchronous (See Datasheet)", 8 DAC ~{A}/B (in) "Selects DAC A or B. Low selects DAC A, and high selects DAC B.", 9 NC "Not internally connected.", 10 DB11 (in) "Parallel Data Bit 11", 11 DB10 (in) "Parallel Data Bit 10", 12 DB9 (in) "Parallel Data Bit 9", 13 DB8 (in) "Parallel Data Bit 8", 14 DB7 (in) "Parallel Data Bit 7", 15 DB6 (in) "Parallel Data Bit 6", 16 DB5 (in) "Parallel Data Bit 5", 17 DB4 (in) "Parallel Data Bit 4", 18 DB3 (in) "Parallel Data Bit 3", 19 DB2 (in) "Parallel Data Bit 2", 20 DB1 (in) "Parallel Data Bit 3", 21 DB0 (in) "Parallel Data Bit 0", 22 ~{CS} (in) "Chip Select Input. Active low. Used in conjunction with R/W\ to load parallel data to the input latch or to read data from the DAC register. Edge sensitive; when pulled high, the DAC data is latched.", 23 R/~{W} (in) "Read/Write. When low, used in conjunction with C\S\ to load parallel data. When high, used in conjunction with C\S\ to read back contents of DAC register.", 24 ~{CLR} (in) "Active Low Control Input. Clears DAC output and input and DAC registers.", 25 VDD (power) "Positive Power Supply Input. These parts can be operated from a supply of 2.5 V to 5.5 V.", 26 VREFB (in) "DAC Reference Voltage Input Terminals.", 27 R3B "DAC B 4-Quadrant Resistors. Allow a number of configuration modes, including bipolar operation with a minimum of external components.", 28 R2_3B "DAC B 4-Quadrant Resistors. Allow a number of configuration modes, including bipolar operation with a minimum of external components.", 29 R2B "DAC B 4-Quadrant Resistors. Allow a number of configuration modes, including bipolar operation with a minimum of external components.", 30 R1B "DAC B 4-Quadrant Resistors. Allow a number of configuration modes, including bipolar operation with a minimum of external components.", 31 RFBB (in) "External Amplifier Output.", 32 IOUT2B "DAC A Analog Ground. This pin typically should be tied to the analog ground of the system, but can be biased to achieve single-supply operation.", 33 IOUT1B (out) "DAC B Current Output.", 34 NC "Not internally connected.", 35 NC "Not internally connected.", 36 NC "Not internally connected.", 37 NC "Not internally connected.", 38 IOUT1A (out) "DAC A Current Output.", 39 IOUT2A "DAC A Analog Ground. This pin typically should be tied to the analog ground of the system, but can be biased to achieve single-supply operation.", 40 RFBA (in) "External Amplifier Output.", 41 EP (power) "Exposed pad must be connected to ground."